# Altium footprint library PcbLib2.PcbLib: 18 footprints (part 1 of 2)
Each footprint in its own frame and in the unit in brackets; x right, y up, seen from the top. Pads: shape width x height; smd on the part's side, far side on the other; paste and mask are expansions set on the pad; w line width, h text height; cw(c..) or ccw(c..) is an arc to the next point about the centre after c.
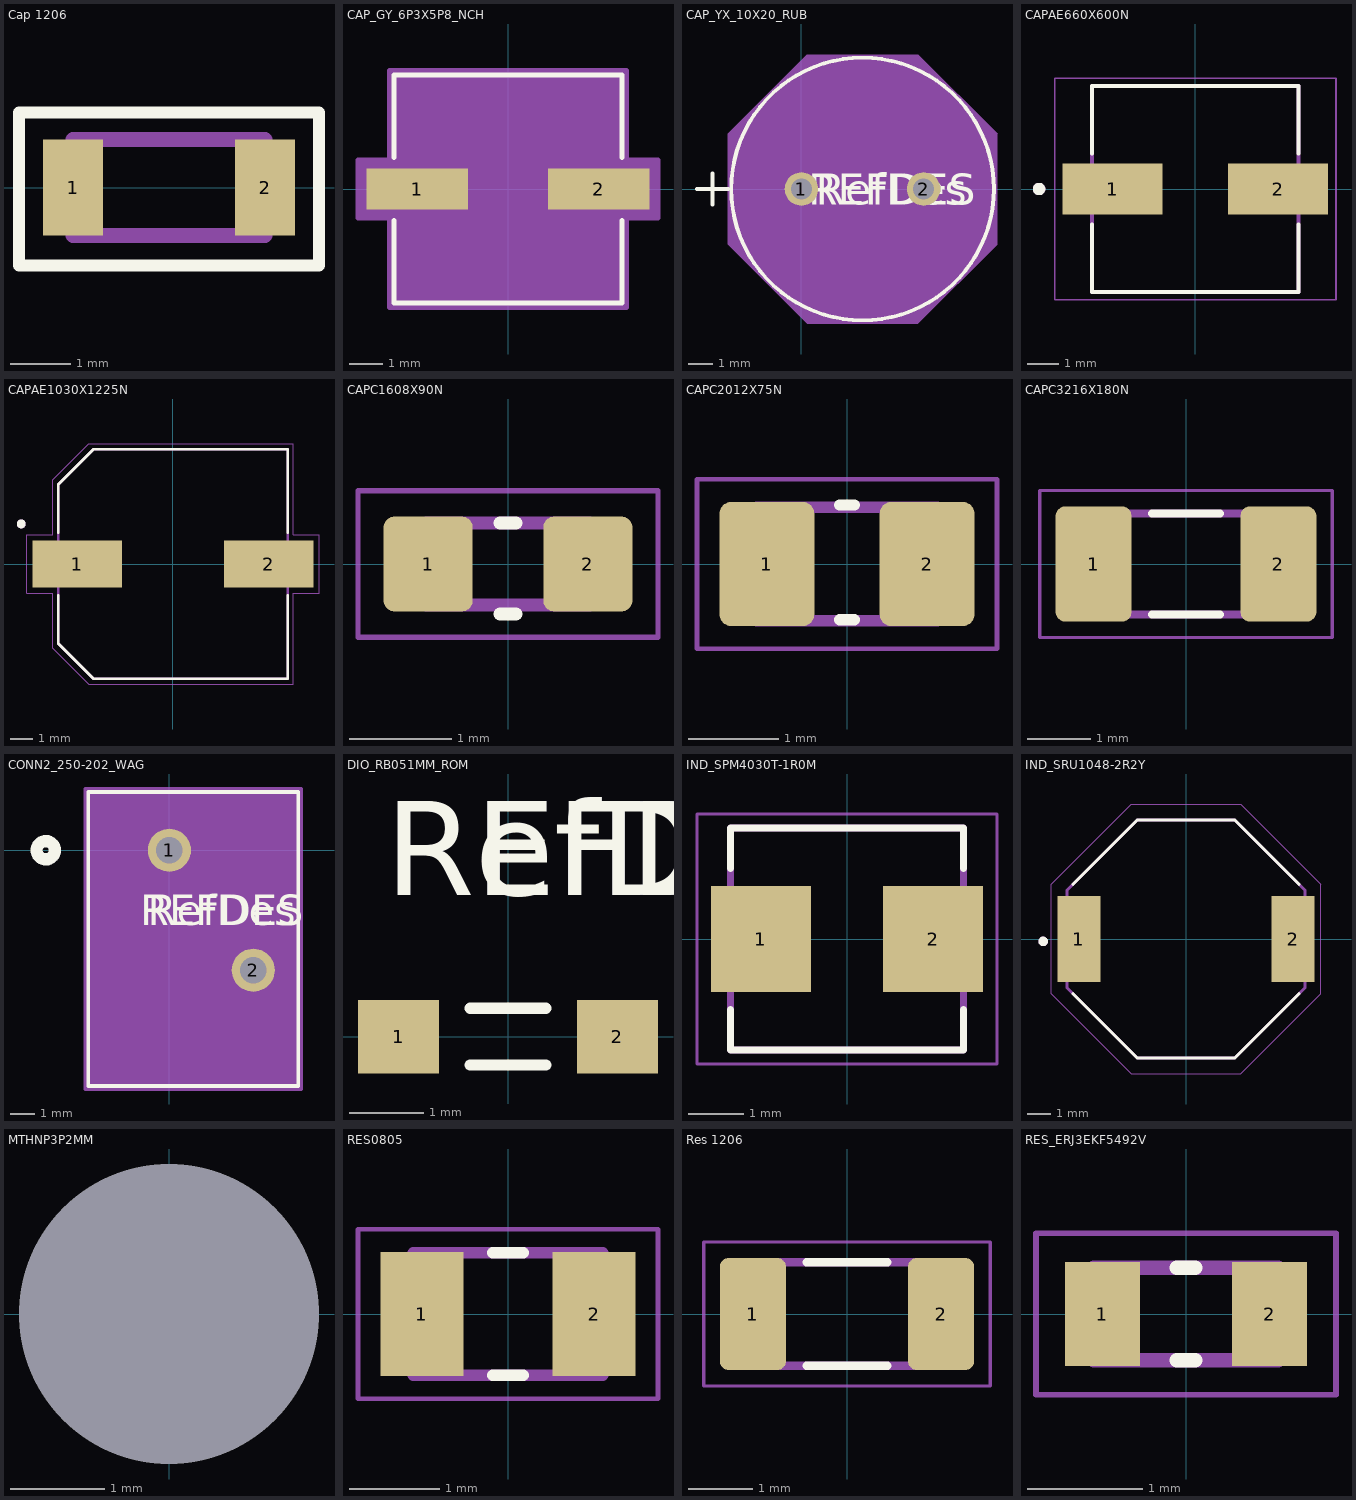
[diagram p0: the footprints below, top view; thin cyan lines are the x and y axes]

## Cap 1206 [mm] "Generic SMD capacitor with 1206 package (3216 metric)"
pads (2):
  rect 1x1.6 smd: 1(2.007,0) 2(5.207,0)
Top Overlay:
  lines w0.2: 1.107,-1.3 1.107,1.25 2.357,1.25 6.107,1.25 6.107,-1.3 4.857,-1.3 2.357,-1.3 1.107,-1.3
Mechanical 1:
  lines w0.254: 2.007,-0.8 2.007,0.8 5.207,0.8 5.207,-0.8 2.007,-0.8

## CAP_GY_6P3X5P8_NCH [mil]
pads (2):
  rect 120x48 smd paste+0 mask+0: 1(-107.5,0) 2(107.5,0)
Top Overlay:
  lines w6: -135,-37.1 -135,-135 135,-135 135,-37.1 ; -135,37.1 -135,135 135,135 135,37.1
  text ".Designator" at -137.5,-25 h50
Mechanical 13:
  lines w1: -130,-65 -65,-130 ; -130,65 -65,130 ; -130,-130 130,-130 130,130 -130,130 -130,-130
  text ".Designator" at -137.5,-25 h50
Mechanical 15:
  region: -140,-34 -177.5,-34 -177.5,34 -140,34 -140,140 140,140 140,34 177.5,34 177.5,-34 140,-34 140,-140 -140,-140
  lines w6: -177.5,-34 -177.5,34 -140,34 -140,140 140,140 140,34 177.5,34 177.5,-34 140,-34 140,-140 -140,-140 -140,-34 -177.5,-34
3D body "CAP_GY_6P3X5P8_NCH.step": height 250.12, standoff 0, extent -147.48,-130 147.48,130

## CAP_YX_10X20_RUB [mil]
pads (2):
  round 54 / inner round 60 / far side round 54 hole 34 paste-99999 mask+0: 1(0,0) 2(196.85,0)
Top Overlay:
  circle w6: c98.43,0 r211.5
  lines w6: -168.07,0 -118.07,0 ; -143.07,-25 -143.07,25
  text "RefDes" at 23.43,-25 h50
  text "REFDES" at 10.93,-25 h50
Mechanical 13:
  circle w0: c98.43,0 r206.5
  lines w1: -168.07,0 -118.07,0 ; -143.07,-25 -143.07,25
  text "RefDes2" at 10.93,-25 h50
Mechanical 15:
  region: -118.07,89.15 9.28,216.5 187.57,216.5 314.93,89.15 314.93,-89.15 187.57,-216.5 9.28,-216.5 -118.07,-89.15
  lines w1: -118.07,-89.15 9.28,-216.5 187.57,-216.5 314.93,-89.15 314.93,89.15 187.57,216.5 9.28,216.5 -118.07,89.15 -118.07,-89.15
3D body "CAP_YX_10X20_RUB.step": height 866.61, standoff -172.01, extent -108.07,-206.37 305.88,206.37

## CAPAE660X600N [mm]
height 6
pads (2):
  rect 3.21x1.62 smd paste+0 mask+0.102: 1(-2.65,0) 2(2.65,0)
Top Overlay:
  circle w0.2: c-5,0 r0.1
  lines w0.127: -3.3,-1.13 -3.3,-3.3 3.3,-3.3 3.3,-1.13 ; -3.3,1.13 -3.3,3.3 3.3,3.3 3.3,1.13
Mechanical 13:
  circle w0.2: c-5,0 r0.1
  lines w0.127: -3.3,-3.3 3.3,-3.3 3.3,3.3 -3.3,3.3 -3.3,-3.3
Mechanical 15:
  lines w0.05: -4.505,-3.55 -4.505,3.55 4.505,3.55 4.505,-3.55 -4.505,-3.55
3D body "step_temp.STEP": height 6, standoff 0, extent -3.65,-3.3 3.65,3.3

## CAPAE1030X1225N [mm]
height 12.7
pads (2):
  rect 4.01x2.12 smd paste+0 mask+0.102: 1(-4.3,0) 2(4.3,0)
Top Overlay:
  circle w0.2: c-6.81,1.8 r0.1
  lines w0.127: -5.15,-1.4 -5.15,-3.57 -3.57,-5.15 5.15,-5.15 5.15,-1.4 ; -5.15,1.4 -5.15,3.57 -3.57,5.15 5.15,5.15 5.15,1.4
Mechanical 13:
  circle w0.2: c-6.81,1.8 r0.1
  lines w0.127: -5.15,-3.57 -5.15,3.57 -3.57,5.15 5.15,5.15 5.15,-5.15 -3.57,-5.15 -5.15,-3.57
Mechanical 15:
  lines w0.05: -6.555,-1.31 -5.4,-1.31 -5.4,-3.775 -3.775,-5.4 5.4,-5.4 5.4,-1.31 6.555,-1.31 6.555,1.31 5.4,1.31 5.4,5.4 -3.775,5.4 -5.4,3.775 -5.4,1.31 -6.555,1.31 -6.555,-1.31
3D body "step_temp.STEP": height 12.7, standoff 0, extent -5.5,-5.15 5.5,5.15

## CAPC1608X90N [mm]
pads (2):
  rrect25% 0.87x0.93 smd paste+0 mask+0.102: 1(-0.78,0) 2(0.78,0)
Top Overlay:
  lines w0.127: -0.08,-0.489 0.08,-0.489 ; -0.08,0.4 0.08,0.4
Mechanical 13:
  lines w0.127: -0.8,-0.4 -0.8,0.4 0.8,0.4 0.8,-0.4 -0.8,-0.4
Mechanical 15:
  lines w0.05: -1.465,-0.715 -1.465,0.715 1.465,0.715 1.465,-0.715 -1.465,-0.715
3D body "step_temp.STEP": height 0.9, standoff 0, extent -0.8,-0.4 0.8,0.4

## CAPC2012X75N [mm]
pads (2):
  rrect25% 1.05x1.38 smd paste+0 mask+0.102: 1(-0.888,0) 2(0.888,0)
Top Overlay:
  lines w0.127: -0.08,-0.616 0.08,-0.616 ; -0.08,0.654 0.08,0.654
Mechanical 13:
  lines w0.127: -1,-0.63 1,-0.63 1,0.63 -1,0.63 -1,-0.63
Mechanical 15:
  lines w0.05: -1.663,-0.94 1.663,-0.94 1.663,0.94 -1.663,0.94 -1.663,-0.94
3D body "step_temp.STEP": height 0.75, standoff 0, extent -1,-0.625 1,0.625

## CAPC3216X180N [mm]
pads (2):
  rrect25% 1.2x1.82 smd: 1(-1.46,0) 2(1.46,0)
Top Overlay:
  lines w0.127: -0.54,-0.8 0.54,-0.8 ; -0.54,0.8 0.54,0.8
Mechanical 13:
  lines w0.127: -1.6,-0.8 -1.6,0.8 1.6,0.8 1.6,-0.8 -1.6,-0.8
Mechanical 15:
  lines w0.05: -2.31,-1.16 -2.31,1.16 2.31,1.16 2.31,-1.16 -2.31,-1.16
3D body "step_temp.STEP": height 1.8, standoff 0, extent -1.6,-0.8 1.6,0.8

## CONN2_250-202_WAG [mm]
pads (2):
  round 1.8 / inner round 1.524 / far side round 1.8 hole 1.1 paste-2539.97 mask+0: 1(0,0) 2(3.5,-5)
Top Overlay:
  circle w0.508: c-5.155,0 r0.381
  lines w0.152: -3.377,-9.827 5.377,-9.827 5.377,2.427 -3.377,2.427 -3.377,-9.827
  text "RefDes" at -0.905,-3.135 h1.27
  text "REFDES" at -1.222,-3.135 h1.27
Bottom Overlay:
  circle w0.508: c-5.155,0 r0.381
Top 3D Body:
  circle w0.508: c0,1.905 r0.381
  lines w0.025: -3.25,-9.7 5.25,-9.7 5.25,2.3 -3.25,2.3 -3.25,-9.7
  text "RefDes2" at -1.222,-3.135 h1.27
Top Courtyard:
  region: 5.504,2.554 -3.504,2.554 -3.504,-9.954 5.504,-9.954
  lines w0.152: -3.504,-9.954 -3.504,2.554 5.504,2.554 5.504,-9.954 -3.504,-9.954
3D body "250-202.stp": height 12.81, standoff -3.89, extent -3.259,-9.689 5.241,2.311

## DIO_RB051MM_ROM [mil]
pads (2):
  rect 43x39 smd paste+0 mask+0: 1(-58,0) 2(58,0)
Top Overlay:
  lines w6: -20,-15 20,-15 ; -20,15 20,15
  text "REFDES" at -65,75 h50
  text "RefDes" at -65,75 h50
  text "." at -112.27,-7.27 h118.11
Mechanical 13:
  text "RefDes2" at -65,75 h50

## IND_SPM4030T-1R0M [mm]
height 3
pads (2):
  rect 1.8x1.9 smd: 1(-1.55,0) 2(1.55,0)
Top Overlay:
  lines w0.127: -2.1,-1.27 -2.1,-2 2.1,-2 2.1,-1.27 ; -2.1,1.27 -2.1,2 2.1,2 2.1,1.27
Mechanical 13:
  lines w0.127: -2.1,-2 2.1,-2 2.1,2 -2.1,2 -2.1,-2
Mechanical 15:
  lines w0.05: -2.7,-2.25 2.7,-2.25 2.7,2.25 -2.7,2.25 -2.7,-2.25
3D body "SPM4030T-1R0M--3DModel-STEP-269445.STEP": height 2.86, standoff -0.14, extent -2.1,-2 2.1,2

## IND_SRU1048-2R2Y [mm]
height 5.1
pads (2):
  rect 1.8x3.6 smd: 1(-4.5,0) 2(4.5,0)
Top Overlay:
  circle w0.2: c-6,-0.1 r0.1
  lines w0.127: -4.75,-2.3 -2.05,-5 2.05,-5 4.75,-2.3 ; -4.75,2.3 -2.05,5 2.05,5 4.75,2.3
Mechanical 13:
  circle w0.2: c-6,-0.1 r0.1
  lines w0.127: -5,-2.05 -2.05,-5 2.05,-5 5,-2.05 5,2.05 2.05,5 -2.05,5 -5,2.05 -5,-2.05
Mechanical 15:
  lines w0.05: -5.65,-2.3 -2.3,-5.65 2.3,-5.65 5.65,-2.3 5.65,2.3 2.3,5.65 -2.3,5.65 -5.65,2.3 -5.65,-2.3
3D body "step_temp.STEP": height 5.1, standoff 0, extent -5,-5 5,5

## MTHNP3P2MM [mm] "Mounting Hole Non Plated 3.2 mm hole"
pads (1):
  round 1 hole 3.2 unplated: ""(0,0)

## RES0805 [mm] "Generic 0805 Res;"
pads (2):
  rect 0.92x1.38 smd paste+0 mask+0.102: 1(-0.955,0) 2(0.955,0)
Top Overlay:
  lines w0.127: -0.17,-0.68 0.17,-0.68 ; -0.17,0.68 0.17,0.68
Mechanical 13:
  lines w0.127: -1.05,-0.68 -1.05,0.68 1.05,0.68 1.05,-0.68 -1.05,-0.68
Mechanical 15:
  lines w0.05: -1.665,-0.94 -1.665,0.94 1.665,0.94 1.665,-0.94 -1.665,-0.94
3D body "step_temp.STEP": height 0.6, standoff 0, extent -1,-0.625 1,0.625

## Res 1206 [mm]
height 0.65
pads (2):
  rrect25% 1.02x1.73 smd: 1(-1.455,0) 2(1.455,0)
Top Overlay:
  lines w0.127: -0.625,-0.8 0.625,-0.8 ; -0.625,0.8 0.625,0.8
Top 3D Body:
  lines w0.127: -1.55,-0.8 1.55,-0.8 1.55,0.8 -1.55,0.8 -1.55,-0.8
Top Courtyard:
  lines w0.05: -2.215,-1.115 2.215,-1.115 2.215,1.115 -2.215,1.115 -2.215,-1.115

## RES_ERJ3EKF5492V [mm]
height 0.45
pads (2):
  rect 0.65x0.9 smd paste+0 mask+0.102: 1(-0.725,0) 2(0.725,0)
Top Overlay:
  lines w0.127: -0.08,-0.4 0.08,-0.4 ; -0.08,0.4 0.08,0.4
Mechanical 13:
  lines w0.127: -0.8,-0.4 0.8,-0.4 0.8,0.4 -0.8,0.4 -0.8,-0.4
Mechanical 15:
  lines w0.05: -1.3,-0.7 1.3,-0.7 1.3,0.7 -1.3,0.7 -1.3,-0.7
3D body "step_temp.STEP": height 0.45, standoff 0, extent -0.8,-0.4 0.8,0.4